# Altium integrated library Oscillator.IntLib: 11 symbols
Pins are listed as number, name and electrical type; pins without a type are passive.

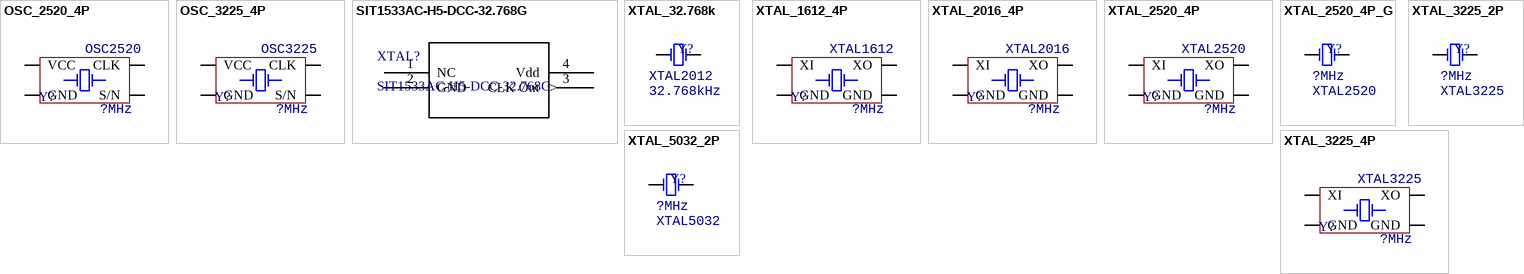
[diagram p0: symbols OSC_2520_4P to XTAL_5032_2P]

## OSC_2520_4P
designator Y?, comment value ?MHz  (hidden comment: OSC2520)
Crystal Oscillator; Type: OSC2520
footprint XT_2520_4
pins: 1 S/N, 2 GND, 3 CLK, 4 VCC

## OSC_3225_4P
designator Y?, comment value ?MHz  (hidden comment: OSC3225)
Crystal Oscillator; Type: OSC3225
footprint XT_3225_4
pins: 1 S/N, 2 GND, 3 CLK, 4 VCC

## SIT1533AC-H5-DCC-32.768G
designator XTAL?
No Description Available; Built_By: EMA_Justin; Vendor: SiTime; SourceLibrary: SiTime_2019-03-28_19; Copyright: Copyright (C) 2018 Accelerated Designs. All rights reserved; Manufacturer_Part_Number: SIT1533AC-H5-DCC-32.768G; RefDes: RefDes; Type: DEV
footprint XTAL4_SiT1533_SIT
pins: 1 NC, 2 GND, 3 CLK Out (out), 4 Vdd (power)

## XTAL_32.768k
designator Y?, comment value 32.768kHz  (hidden comment: XTAL2012)
Crystal Oscillator; Type: XTAL2012
footprint XT_8038_4
footprint XT_3215_2
footprint XT_2012_2
pins: 1 OSC1, 2 OSC2

## XTAL_1612_4P
designator Y?, comment value ?MHz  (hidden comment: XTAL1612)
Crystal Oscillator; Type: XTAL1612
footprint XT_1612_4
pins: 1 XI, 2 GND, 3 XO, 4 GND

## XTAL_2016_4P
designator Y?, comment value ?MHz  (hidden comment: XTAL2016)
Crystal Oscillator; Type: XTAL2016
footprint XT_2016_4
pins: 1 XI, 2 GND, 3 XO, 4 GND

## XTAL_2520_4P
designator Y?, comment value ?MHz  (hidden comment: XTAL2520)
Crystal Oscillator; Type: XTAL2520
footprint XT_2520_4
pins: 1 XI, 2 GND, 3 XO, 4 GND

## XTAL_2520_4P_G
designator Y?, comment value ?MHz  (hidden comment: XTAL2520)
Crystal Oscillator; Type: XTAL2520
footprint XT_2520_4
pins: 1 OSC1, 3 OSC2

## XTAL_3225_2P
designator Y?, comment value ?MHz  (hidden comment: XTAL3225)
Crystal Oscillator; Type: XTAL3225
footprint XT_3225_2
pins: 1 OSC1, 2 OSC2

## XTAL_3225_4P
designator Y?, comment value ?MHz  (hidden comment: XTAL3225)
Crystal Oscillator; Type: XTAL3225
footprint XT_3225_4
pins: 1 XI, 2 GND, 3 XO, 4 GND

## XTAL_5032_2P
designator Y?, comment value ?MHz  (hidden comment: XTAL5032)
Crystal Oscillator; Type: XTAL5032
footprint XT_5032_2
pins: 1 OSC1, 2 OSC2